# Altium footprint library SparkFun-Batteries.PCBLIB: 22 footprints (part 2 of 2)
Each footprint in its own frame and in the unit in brackets; x right, y up, seen from the top. Pads: shape width x height; smd on the part's side, far side on the other; paste and mask are expansions set on the pad; w line width, h text height; cw(c..) or ccw(c..) is an arc to the next point about the centre after c.
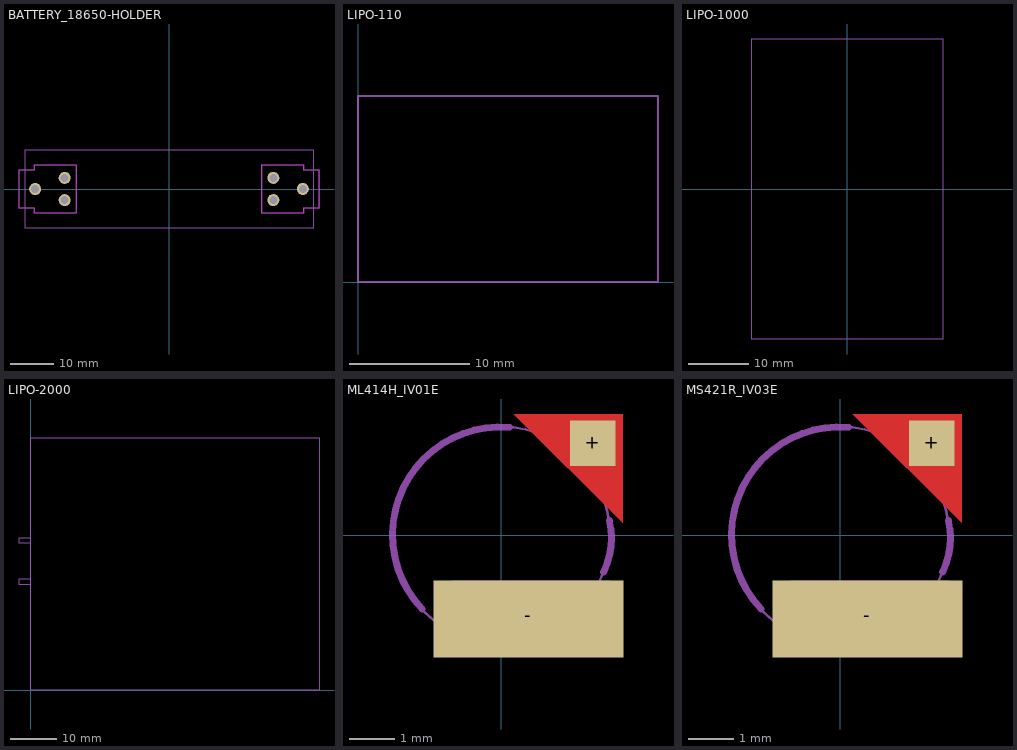
[diagram p1: the footprints below, top view; thin cyan lines are the x and y axes]

## BATTERY_18650-HOLDER [mil]
pads (6):
  round 108 hole 72: GND@1(1205.83,0.39) GND@2(940.16,100.39) GND@3(940.16,-99.61) PWR@1(-1205.83,-0.39) PWR@2(-940.16,99.61) PWR@3(-940.16,-100.39)
Top keep-out:
  lines w8: -1351.37,-175 -1214.37,-175 -1214.37,-219 -839.37,-219 -839.37,219 -1214.37,219 -1214.37,175 -1351.37,175 -1351.37,-175 ; 835.83,-218.61 835.83,219.39 1211.22,219.39 1211.22,175.39 1348.22,175.39 1348.22,-174.61 1211.22,-174.61 1211.22,-218.61 835.83,-218.61 ; 839.37,-219 839.37,219 1214.37,219 1214.37,175 1351.37,175 1351.37,-175 1214.37,-175 1214.37,-219 839.37,-219
tDocu:
  lines w5: -1299.21,-354.33 1299.21,-354.33 1299.21,354.33 -1299.21,354.33 -1299.21,-354.33
tPlace:
  lines w8: -1348.22,-175.39 -1211.22,-175.39 -1211.22,-219.39 -835.83,-219.39 -835.83,218.61 -1211.22,218.61 -1211.22,174.61 -1348.22,174.61 -1348.22,-175.39 ; 835.83,-218.61 835.83,219.39 1211.22,219.39 1211.22,175.39 1348.22,175.39 1348.22,-174.61 1211.22,-174.61 1211.22,-218.61 835.83,-218.61
  text "+" at -730,-50 h155
  text "-" at 650,-50 h155

## LIPO-110 [mil]
tDocu:
  lines w5: 0,0 0,610.24 984.25,610.24 984.25,0 0,0

## LIPO-1000 [mil]
tDocu:
  lines w8: -629.92,-984.25 629.92,-984.25 629.92,984.25 -629.92,984.25 -629.92,-984.25

## LIPO-2000 [mil]
tDocu:
  lines w5: 0,900 0,0 2450,0 2450,2150 0,2150 0,1300 ; 0,900 0,950 ; 0,900 -100,900 -100,950 0,950 ; 0,950 0,1250 ; 0,1250 0,1300 ; 0,1250 -100,1250 -100,1300 0,1300

## ML414H_IV01E [mm]
pads (2):
  rect 1x1 smd paste+0 mask+0: +(2.022,2.032)
  rect 4.2x1.7 smd paste+0 mask+0: -(0.6,-1.85)
Top:
  region: 0.28,2.68 2.68,2.68 2.68,0.28
Top Paste:
  region: -1.5,-2.7 -1.5,-1 2.7,-1 2.7,-2.7
  region: 0.28,2.68 2.68,2.68 2.68,0.28
Top Solder:
  region: -1.5,-2.7 -1.5,-1 2.7,-1 2.7,-2.7
  region: 0.28,2.68 2.68,2.68 2.68,0.28
tDocu:
  circle w0.051: c0,0 r2.4
  region: -1.1,-2.4 2.4,-2.4 2.4,-1.01 -1.1,-1.01
  region: 0.8,2.4 2.4,2.4 2.4,0.8
tPlace:
  lines w0.152: -1.753,-1.626 cw(c-0.019,0.012) 0.178,2.388 ; 2.261,-0.813 ccw(c0.698,-0.061) 2.388,0.33

## MS421R_IV03E [mm]
pads (2):
  rect 1x1 smd paste+0 mask+0: +(2.022,2.032)
  rect 4.2x1.7 smd paste+0 mask+0: -(0.6,-1.85)
Top:
  region: 0.28,2.68 2.68,2.68 2.68,0.28
Top Paste:
  region: -1.5,-2.7 -1.5,-1 2.7,-1 2.7,-2.7
  region: 0.28,2.68 2.68,2.68 2.68,0.28
Top Solder:
  region: -1.5,-2.7 -1.5,-1 2.7,-1 2.7,-2.7
  region: 0.28,2.68 2.68,2.68 2.68,0.28
tDocu:
  circle w0.051: c0,0 r2.4
  region: -1.1,-2.4 2.4,-2.4 2.4,-1.01 -1.1,-1.01
  region: 0.8,2.4 2.4,2.4 2.4,0.8
tPlace:
  lines w0.152: -1.753,-1.626 cw(c-0.019,0.012) 0.178,2.388 ; 2.261,-0.813 ccw(c0.698,-0.061) 2.388,0.33